# EAGLE library part VGA (library bt_electromech)
VGA Connector
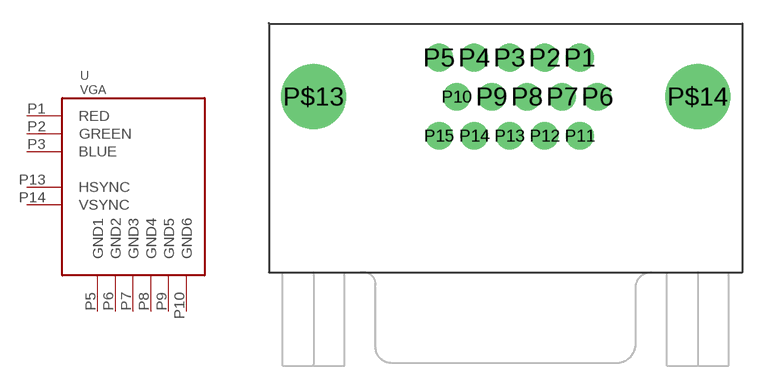
[diagram p1: symbol with the pads of FCI_DSUB_HD_15_RA; footprint FCI_DSUB_HD_15_RA]

Designator prefix -

## VGA  [FCI_DSUB_HD_15_RA]
P1  RED
P2  GREEN
P3  BLUE
P5  GND1
P6  GND2
P7  GND3
P8  GND4
P9  GND5
P10  GND6
P13  HSYNC
P14  VSYNC

## Footprint FCI_DSUB_HD_15_RA (pad centres in mm)
drill 1.2: P1 4.83,2.54; P2 2.54,2.54; P3 0.25,2.54; P4 -2.04,2.54; P5 -4.33,2.54; P6 5.97,0; P7 3.68,0; P8 1.39,0; P9 -0.9,0; P10 -3.19,0; P11 4.83,-2.54; P12 2.54,-2.54; P13 0.25,-2.54; P14 -2.04,-2.54; P15 -4.33,-2.54
drill 3.2: P$13 -12.5,0; P$14 12.5,0